# EAGLE library part IP101GA (library systas0)
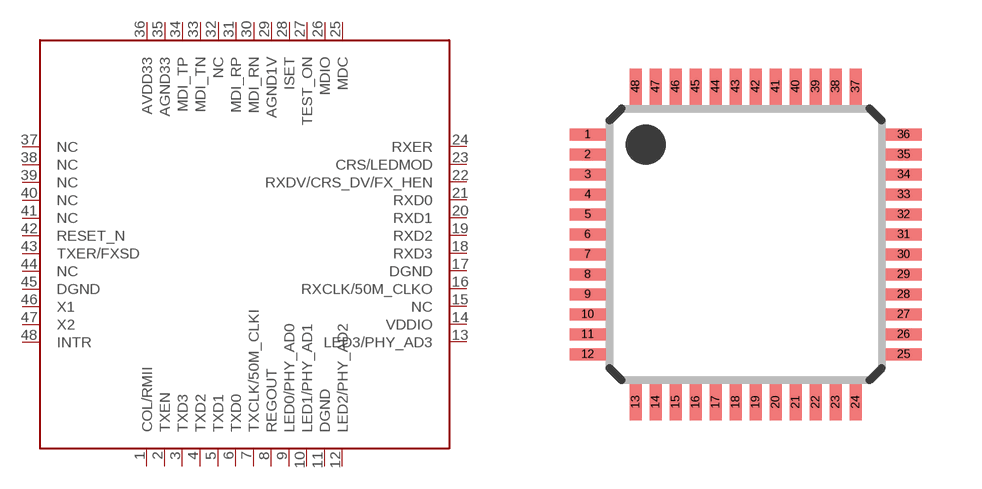
[diagram p30: symbol with the pads of LQFP48-7X7; footprint LQFP48-7X7]

Designator prefix -

## IP101GA  [LQFP48-7X7]
1  COL/RMII
2  TXEN
3  TXD3
4  TXD2
5  TXD1
6  TXD0
7  TXCLK/50M_CLKI
8  REGOUT
9  LED0/PHY_AD0
10  LED1/PHY_AD1
11  DGND
12  LED2/PHY_AD2
13  LED3/PHY_AD3
14  VDDIO
15  NC
16  RXCLK/50M_CLKO
17  DGND
18  RXD3
19  RXD2
20  RXD1
21  RXD0
22  RXDV/CRS_DV/FX_HEN
23  CRS/LEDMOD
24  RXER
25  MDC
26  MDIO
27  TEST_ON
28  ISET
29  AGND1V
30  MDI_RN
31  MDI_RP
32  NC
33  MDI_TN
34  MDI_TP
35  AGND33
36  AVDD33
37  NC
38  NC
39  NC
40  NC
41  NC
42  RESET_N
43  TXER/FXSD
44  NC
45  DGND
46  X1
47  X2
48  INTR

## Footprint LQFP48-7X7 (pad centres in mm)
smd 0.9 x 0.3: 1 -3.95,2.75; 2 -3.95,2.25; 3 -3.95,1.75; 4 -3.95,1.25; 5 -3.95,0.75; 6 -3.95,0.25; 7 -3.95,-0.25; 8 -3.95,-0.75; 9 -3.95,-1.25; 10 -3.95,-1.75; 11 -3.95,-2.25; 12 -3.95,-2.75; 25 3.95,-2.75; 26 3.95,-2.25; 27 3.95,-1.75; 28 3.95,-1.25; 29 3.95,-0.75; 30 3.95,-0.25; 31 3.95,0.25; 32 3.95,0.75; 33 3.95,1.25; 34 3.95,1.75; 35 3.95,2.25; 36 3.95,2.75
smd 0.3 x 0.9: 13 -2.75,-3.95; 14 -2.25,-3.95; 15 -1.75,-3.95; 16 -1.25,-3.95; 17 -0.75,-3.95; 18 -0.25,-3.95; 19 0.25,-3.95; 20 0.75,-3.95; 21 1.25,-3.95; 22 1.75,-3.95; 23 2.25,-3.95; 24 2.75,-3.95; 37 2.75,3.95; 38 2.25,3.95; 39 1.75,3.95; 40 1.25,3.95; 41 0.75,3.95; 42 0.25,3.95; 43 -0.25,3.95; 44 -0.75,3.95; 45 -1.25,3.95; 46 -1.75,3.95; 47 -2.25,3.95; 48 -2.75,3.95